# EAGLE library part CAN_TRANSCEIVER (library Custom_new)
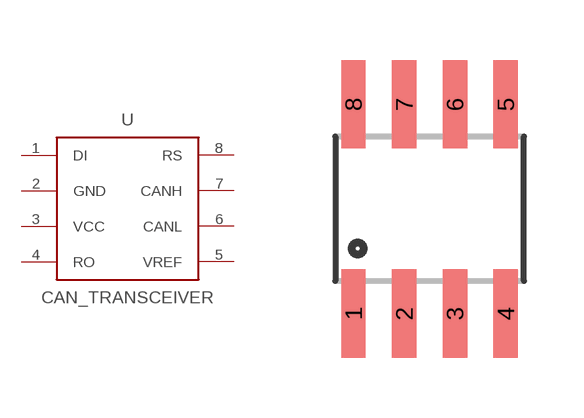
[diagram p11: symbol with the pads of SOIC8; footprint SOIC8]

Designator prefix -

## CAN_TRANSCEIVER_SOIC8  [SOIC8]
1  DI  in
2  GND  pwr
3  VCC  pwr
4  RO  out
5  VREF  out
6  CANL
7  CANH
8  RS  in

## Footprint SOIC8 (pad centres in mm)
smd 0.61 x 2.21: 1 -1.905,-2.616; 2 -0.635,-2.616; 3 0.635,-2.616; 4 1.905,-2.616; 5 1.905,2.616; 6 0.635,2.616; 7 -0.635,2.616; 8 -1.905,2.616